# Altium schematic symbol library libX.SchLib: 23 symbols
Pins are listed as number, name and electrical type; pins without a type are passive.

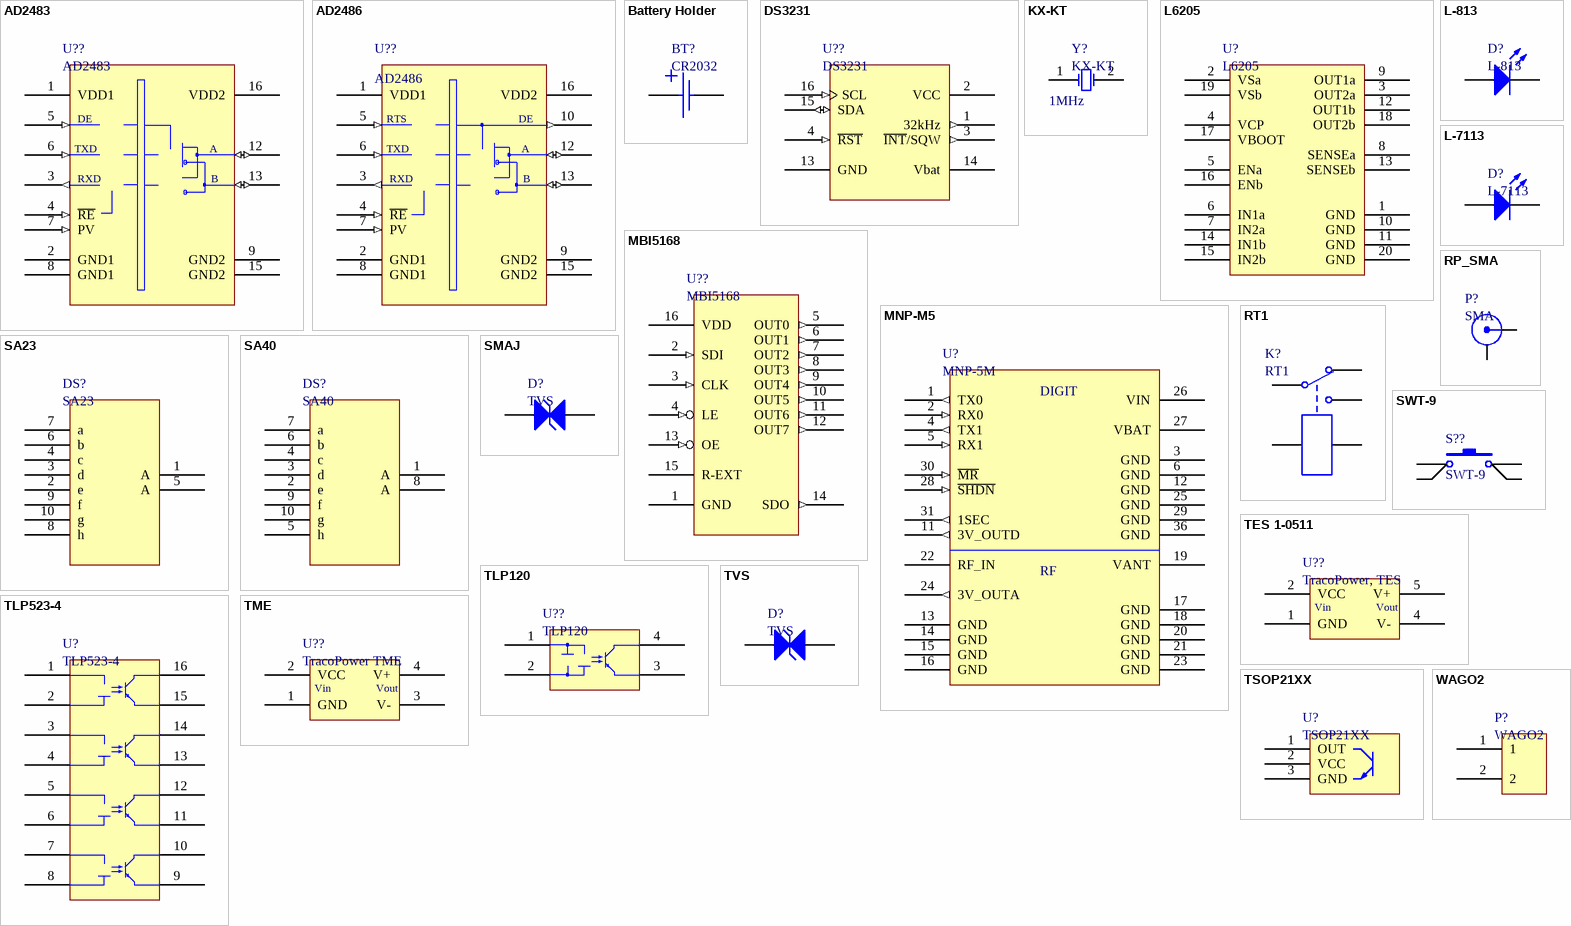
[diagram p0: symbols AD2483 to WAGO2]

## AD2483
designator U??
High Speed, Half-Duplex Isolated RS-485 Transceiver
footprint SOL-16_L (16-Pin Small Outline Integrated Circuit 1.27 mm Pitch, IPC High Density)
footprint SOL-16_M (16-Pin Small Outline Integrated Circuit 1.27 mm Pitch, IPC Low Density)
footprint SOL-16_N (16-Pin Small Outline Integrated Circuit 1.27 mm Pitch, IPC Medium Density)
pins: 1 VDD1 (power), 2 GND1 (power), 3 RXD (out), 4 ~{RE} (in), 5 RTS (in), 6 TXD (in), 7 PV (in), 8 GND1 (power), 9 GND2 (power), 12 A (io), 13 B (io), 15 GND2 (power), 16 VDD2 (power)
text: DE

## AD2486
designator U??
High Speed, Half-Duplex Isolated RS-485 Transceiver
footprint SOL-16_N (16-Pin Small Outline Integrated Circuit 1.27 mm Pitch, IPC Medium Density)
footprint SOL-16_M (16-Pin Small Outline Integrated Circuit 1.27 mm Pitch, IPC Low Density)
footprint SOL-16_L (16-Pin Small Outline Integrated Circuit 1.27 mm Pitch, IPC High Density)
pins: 1 VDD1 (power), 2 GND1 (power), 3 RXD (out), 4 ~{RE} (in), 5 RTS (in), 6 TXD (in), 7 PV (in), 8 GND1 (power), 9 GND2 (power), 10 DE (out), 12 A (io), 13 B (io), 15 GND2 (power), 16 VDD2 (power)

## Battery Holder
designator BT?, comment CR2032
Battery holder for CR2032
footprint BATTERY
pins: 1, 2

## DS3231
designator U??
Serial Real-Time Clock
footprint SOIC16WA_L (16-Pin Small Outline Integrated Circuit 1.27 mm Pitch, IPC High Density)
footprint SOIC16WA_M (16-Pin Small Outline Integrated Circuit 1.27 mm Pitch, IPC Low Density)
footprint SOIC16WA_N (16-Pin Small Outline Integrated Circuit 1.27 mm Pitch, IPC Medium Density)
pins: 1 32kHz (out), 2 VCC (power), 3 ~{INT}/SQW (out), 4 ~{RST} (in), 13 GND (power), 14 Vbat, 15 SDA (io), 16 SCL (in)

## KX-KT
designator Y?  value 1MHz
Surface Mount Quartz Crystal
footprint QSMD
pins: 1 OSC1, 2 OSC2

## L6205
designator U?
DMOS Full Bridge Driver
footprint PowerSO20_M (20-Pin Small Outline Package 1.27 mm Pitch, IPC Low Density)
footprint PowerSO20_L (20-Pin Small Outline Package 1.27 mm Pitch, IPC High Density)
footprint PowerSO20_N (20-Pin Small Outline Package 1.27 mm Pitch, IPC Medium Density)
pins: 1 GND, 2 VSa, 3 OUT2a, 4 VCP, 5 ENa, 6 IN1a, 7 IN2a, 8 SENSEa, 9 OUT1a, 10 GND, 11 GND, 12 OUT1b, 13 SENSEb, 14 IN1b, 15 IN2b, 16 ENb, 17 VBOOT, 18 OUT2b, 19 VSb, 20 GND

## L-813
designator D?
KingBright, LED L-813
footprint L-813
pins: A, K

## L-7113
designator D?
KingBright, LED L-7113
footprint L-7113
pins: A, K

## MBI5168
designator U??
Macroblock, 8-bit Constant Current LED Sink Driver
footprint SO-16_L (16-Pin Small Outline Integrated Circuit 1.27 mm Pitch, IPC High Density)
footprint SO-16_M (16-Pin Small Outline Integrated Circuit 1.27 mm Pitch, IPC Low Density)
footprint SO-16_N (16-Pin Small Outline Integrated Circuit 1.27 mm Pitch, IPC Medium Density)
pins: 1 GND (power), 2 SDI (in), 3 CLK (in), 4 LE (in), 5 OUT0 (out), 6 OUT1 (out), 7 OUT2 (out), 8 OUT3 (out), 9 OUT4 (out), 10 OUT5 (out), 11 OUT6 (out), 12 OUT7 (out), 13 OE (in), 14 SDO (out), 15 R-EXT, 16 VDD (power)

## MNP-M5
designator U?, comment MNP-5M
IRZ GPS/GLONASS MNP-M5 module
footprint MNP36
pins: 1 TX0 (out), 2 RX0 (in), 3 GND (power), 4 TX1 (out), 5 RX1 (in), 6 GND (power), 11 3V_OUTD (out), 12 GND (power), 13 GND (power), 14 GND (power), 15 GND (power), 16 GND (power), 17 GND (power), 18 GND (power), 19 VANT (power), 20 GND (power), 21 GND (power), 22 RF_IN, 23 GND (power), 24 3V_OUTA (out), 25 GND (power), 26 VIN (power), 27 VBAT (power), 28 ~{SHDN} (in), 29 GND (power), 30 ~{MR} (in), 31 1SEC (out), 36 GND (power)
text: DIGIT; RF

## RP_SMA
designator P?, comment SMA
SMA Straight Connector
footprint RP-SMA
pins: 1, 2

## RT1
designator K?
Tyco Power PCB Relay RT1
footprint RT1
pins: 1, 2, 3, 4, 5

## SA23
designator DS?
KingBright, SA23-11
footprint LED10
pins: 1 A, 2 e, 3 d, 4 c, 5 A, 6 b, 7 a, 8 h, 9 f, 10 g

## SA40
designator DS?
KingBright, SA40-18
footprint LED40
pins: 1 A, 2 e, 3 d, 4 c, 5 h, 6 b, 7 a, 8 A, 9 f, 10 g

## SMAJ
designator D?, comment TVS
Zener overvoltage transient suppressor
footprint SMA
pins: 1 A, 2 K

## SWT-9
designator S??
Switch
footprint SWT-9
pins: 1, 2, 3, 4

## TES 1-0511
designator U??, comment TracoPower, TES
TracoPower, DC/DC Converters, SMD
footprint SOP8-11x2.54
pins: 1 GND (power), 2 VCC (power), 4 V-, 5 V+
text: Vin; Vout

## TLP120
designator U??
Toshiba, Optocoupler
footprint SOP4-2.54
pins: 1, 2, 3, 4

## TLP523-4
designator U?
TOSHIBA Photocoupler
pins: 1, 2, 3, 4, 5, 6, 7, 8, 9, 10, 11, 12, 13, 14, 15, 16

## TME
designator U??, comment TracoPower TME
TracoPower, DC/DC Converters
footprint SIP4
pins: 1 GND (power), 2 VCC (power), 3 V-, 4 V+
text: Vin; Vout

## TSOP21XX
designator U?
IR Receiver Modules for Remote Control Systems
footprint TSOP21XX
pins: 1 OUT, 2 VCC, 3 GND

## TVS
designator D?
Zener overvoltage transient suppressor
footprint SMB
pins: 1 A, 2 K

## WAGO2
designator P?
Wago
footprint WAGO2
pins: 1, 2